# Altium footprint library C_12.5x25x5.PcbLib: 1 footprints
Each footprint in its own frame and in the unit in brackets; x right, y up, seen from the top. Pads: shape width x height; smd on the part's side, far side on the other; paste and mask are expansions set on the pad; w line width, h text height; cw(c..) or ccw(c..) is an arc to the next point about the centre after c.
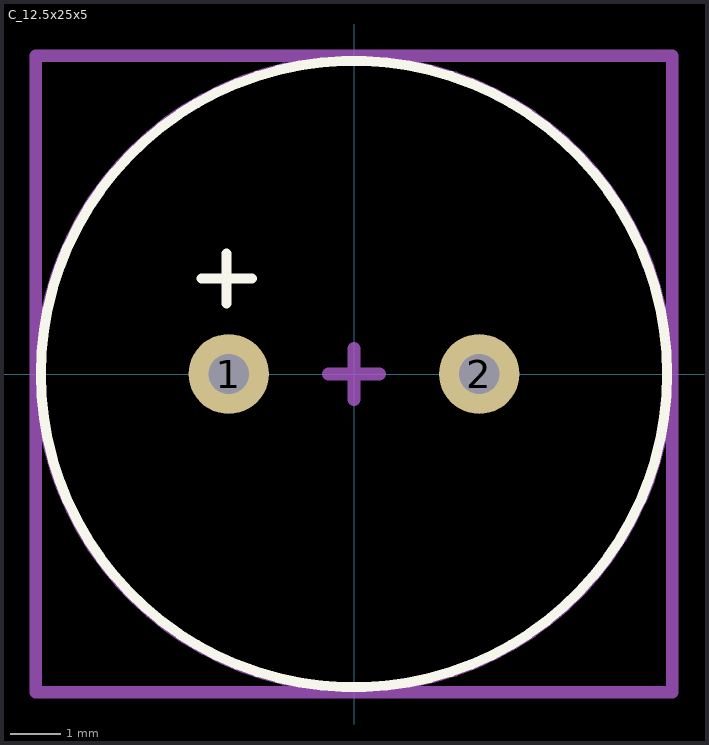
[diagram p0: the footprint, top view; thin cyan lines are the x and y axes]

## C_12.5x25x5 [mm]
pads (2):
  round 1.6 hole 0.8: 1(-2.5,0) 2(2.5,0)
Top Overlay:
  circle w0.2: c0,0 r6.25
  lines w0.2: -3.04,1.905 -2.04,1.905 ; -2.54,1.405 -2.54,2.405
Mechanical 13:
  circle w0.127: c0,0 r6.307
Mechanical 15:
  lines w0.254: -0.508,0 0.508,0 ; 0,-0.508 0,0.508 ; -6.35,-6.35 -6.35,6.35 6.35,6.35 6.35,-6.35 -6.35,-6.35
Mechanical 17:
  text "'.Designator'" at -6.096,-0.254 h1
3D body "User Library-Cap-EL(12_5x25-5)T.step": height 25.5, standoff -3.5, extent -6.25,-6.25 6.252,6.25